# EAGLE library part 418311270803 (library Switches_rev16a)
WS-PT 2.54 mm piano type compact SMD Dip Switch with raised actuator, 3 Pole
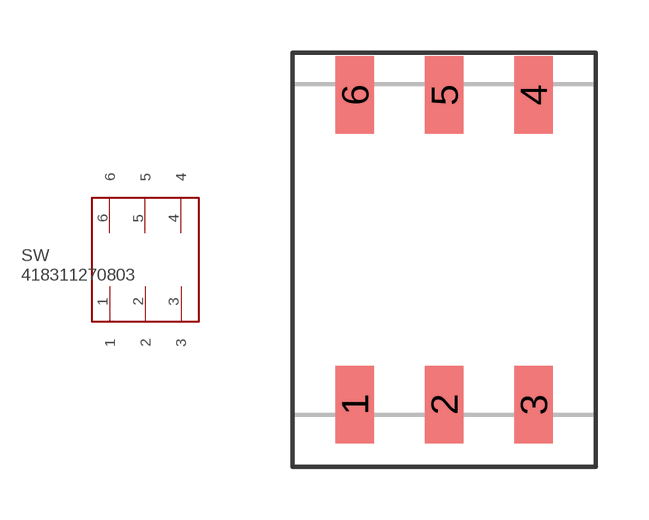
[diagram p91: symbol with the pads of 418311270803; footprint 418311270803]

Designator prefix SW

## 418311270803  [418311270803]
1  1
2  2
3  3
4  4
5  5
6  6

## Footprint 418311270803 (pad centres in mm)
WS-PT 2.54 mm piano type compact SMD Dip Switch with raised actuator, 3 Pole
smd 1.1 x 2.2: 1 -2.54,-4.4; 2 0,-4.4; 3 2.54,-4.4; 4 2.54,4.4; 5 0,4.4; 6 -2.54,4.4